# Altium footprint library SD 卡连接器.PcbLib: 6 footprints
Each footprint in its own frame and in the unit in brackets; x right, y up, seen from the top. Pads: shape width x height; smd on the part's side, far side on the other; paste and mask are expansions set on the pad; w line width, h text height; cw(c..) or ccw(c..) is an arc to the next point about the centre after c.
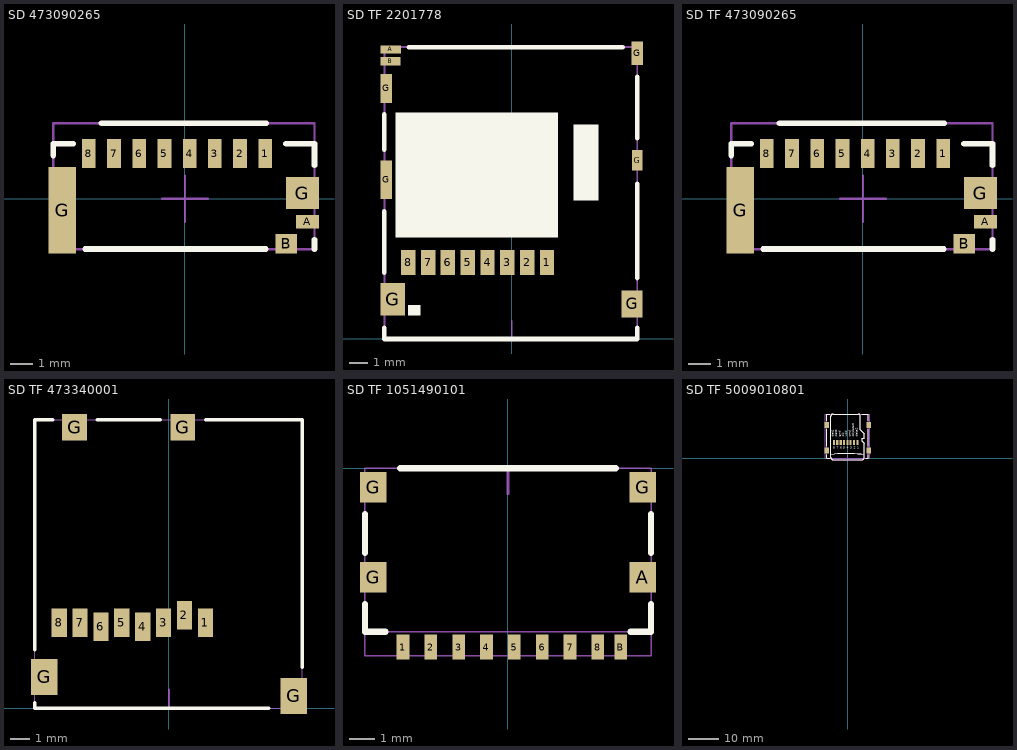
[diagram p0: the footprints below, top view; thin cyan lines are the x and y axes]

## SD 473090265 [mm]
pads (12):
  rect 0.6x1.25 smd: 1(3.503,1.975) 2(2.403,1.975) 3(1.303,1.975) 4(0.203,1.975) 5(-0.897,1.975) 6(-1.997,1.975) 7(-3.097,1.975) 8(-4.197,1.975)
  rect 1x0.6 smd: A(5.353,-1)
  rect 0.95x0.85 smd: B(4.428,-1.975)
  rect 1.2x3.79 smd: G(-5.353,-0.505)
  rect 1.45x1.4 smd: G(5.128,0.25)
Top Overlay:
  lines w0.25: -5.747,1.889 -5.747,2.4 -4.883,2.4 ; -4.35,-2.2 3.524,-2.2 ; 4.413,2.4 5.653,2.4 5.653,1.462 ; 5.653,-2.2 5.653,-1.794
  lines w0.254: -3.647,3.3 3.553,3.3
Mechanical 13:
  lines w0.1: -5.747,-2.2 -5.747,3.3 5.653,3.3 5.653,-2.2 -5.747,-2.2
Mechanical 15:
  lines w0.1: -1,0 1,0 ; 0,-1 0,1
3D body: height 2.71, standoff 0.05, extent -5.747,-2.2 5.653,3.3

## SD TF 2201778 [mm]
pads (16):
  rect 0.8x1.4 smd: 1(1.953,4.25) 2(0.853,4.25) 3(-0.248,4.25) 4(-1.348,4.25) 5(-2.447,4.25) 6(-3.547,4.25) 7(-4.647,4.25) 8(-5.747,4.25)
  rect 1.15x0.45 smd: A(-6.722,16.075)
  rect 1.1x0.45 smd: B(-6.737,15.415)
  rect 0.65x2.14 smd: G(-6.962,8.83)
  rect 0.65x1.6 smd: G(-6.962,13.91)
  rect 1.35x1.8 smd: G(-6.612,2.2)
  rect 1.16x1.5 smd: G(6.683,1.95)
  rect 0.6x1.15 smd: G(6.963,9.925)
  rect 0.65x1.3 smd: G(6.963,15.85)
Top Overlay:
  rectangle: -5.758,1.3 -5.057,1.9
  rectangle: 3.413,7.7 4.812,11.9
  rectangle: -6.448,5.64 2.553,12.57
  lines w0.254: -7.067,0.618 -7.067,0 6.963,0 6.963,0.618 ; -7.067,3.666 -7.067,7.095 ; -7.067,10.498 -7.067,12.48 ; -5.707,16.2 6.154,16.2 ; 6.963,3.386 6.963,8.619 ; 6.963,11.133 6.963,14.562
Mechanical 13:
  lines w0.1: -7.067,0 -7.067,16.2 6.963,16.2 6.963,0 -7.067,0
Mechanical 15:
  lines w0.1: -0.991,0 1,0 ; 0,0 0,1
3D body: height 1.85, standoff 0.05, extent -7.067,0 6.963,16.2

## SD TF 473090265 [mm]
pads (12):
  rect 0.6x1.25 smd: 1(3.503,1.975) 2(2.403,1.975) 3(1.303,1.975) 4(0.203,1.975) 5(-0.897,1.975) 6(-1.997,1.975) 7(-3.097,1.975) 8(-4.197,1.975)
  rect 1x0.6 smd: A(5.353,-1)
  rect 0.95x0.85 smd: B(4.428,-1.975)
  rect 1.2x3.79 smd: G(-5.353,-0.505)
  rect 1.45x1.4 smd: G(5.128,0.25)
Top Overlay:
  lines w0.25: -5.747,1.889 -5.747,2.4 -4.883,2.4 ; -4.35,-2.2 3.524,-2.2 ; 4.413,2.4 5.653,2.4 5.653,1.462 ; 5.653,-2.2 5.653,-1.794
  lines w0.254: -3.647,3.3 3.553,3.3
Mechanical 13:
  lines w0.1: -5.747,-2.2 -5.747,3.3 5.653,3.3 5.653,-2.2 -5.747,-2.2
Mechanical 15:
  lines w0.1: -1,0 1,0 ; 0,-1 0,1
3D body: height 2.71, standoff 0.05, extent -5.747,-2.2 5.653,3.3

## SD TF 473340001 [mm]
pads (12):
  rect 0.8x1.5 smd: 1(1.915,4.5) 2(0.815,4.9) 3(-0.285,4.5) 4(-1.385,4.3) 5(-2.485,4.5) 6(-3.585,4.3) 7(-4.685,4.5) 8(-5.785,4.5)
  rect 1.4x1.9 smd: G(-6.575,1.65) G(6.575,0.65)
  rect 1.3x1.4 smd: G(-4.975,14.8) G(0.725,14.807)
Top Overlay:
  lines w0.2: -7.075,0.279 -7.075,0 5.247,0 ; -7.075,3.099 -7.075,15.2 -6.132,15.2 ; -3.77,15.2 -0.468,15.2 ; 1.945,15.2 7.025,15.2 7.025,2.159
Mechanical 13:
  lines w0.05: -7.075,0 -7.075,15.2 7.025,15.2 7.025,0 -7.075,0
Mechanical 15:
  lines w0.1: -0.991,0 1,0 ; 0,0 0,1
3D body: height 1.91, standoff 0.02, extent -7.075,0 7.025,15.2

## SD TF 1051490101 [mm]
pads (13):
  rect 0.5x1 smd: 1(-4.15,-7.06) 2(-3.05,-7.06) 3(-1.95,-7.06) 4(-0.85,-7.06) 5(0.25,-7.06) 6(1.35,-7.06) 7(2.45,-7.06) 8(3.55,-7.06) B(4.45,-7.06)
  rect 1.05x1.2 smd: A(5.325,-4.3) G(-5.325,-4.3) G(-5.325,-0.75) G(5.325,-0.75)
Top Overlay:
  lines w0.25: -5.65,-5.368 -5.65,-6.45 -4.837,-6.45 ; -5.65,-3.336 -5.65,-1.812 ; -4.253,0 4.256,0 ; 4.837,-6.45 5.65,-6.45 5.65,-5.368 ; 5.65,-3.336 5.65,-1.812
Mechanical 13:
  lines w0.05: -5.65,-6.45 5.65,-6.45 ; -5.65,-7.4 5.65,-7.4 5.65,0 -5.65,0 -5.65,-7.4
Mechanical 15:
  lines w0.1: -1,0 0.991,0 ; 0,-1 0,0
3D body: height 2, standoff 0, extent -5.65,-7.4 5.65,0

## SD TF 5009010801 [mm]
height 1.65
pads (12):
  rect 0.7x1.6 smd: 1(3.204,5.156) 2(2.112,5.156) 3(0.994,5.156) 4(-0.098,5.156) 5(-1.19,5.156) 6(-2.282,5.156) 7(-3.4,5.156) 8(-4.492,5.156)
  rect 1.45x2 smd: A(-6.875,2.556) A(6.875,2.556) B(-6.875,10.856) B(6.875,10.856)
Top Overlay:
  lines w0.1: -6.801,3.906 -6.801,9.506 ; 6.799,3.906 6.799,9.506
  lines w0.127: -6.801,1.143 -6.801,0.006 -5.918,0.006 ; -6.801,12.268 -6.801,14.506 -5.944,14.506 ; -5.512,1.165 cw(c-0.214,-41.278) 5.488,1.113 ; 4.7,14.506 6.799,14.506 6.799,12.319 ; 5.867,0.006 6.799,0.006 6.799,1.143 ; -5.512,0.224 ccw(c-4.786,0.224) -4.786,-0.502 4.763,-0.502 ccw(c4.763,0.224) 5.488,0.224 5.488,4.971 4.852,5.608 4.852,6.598 5.488,6.598 5.488,8.098 4.188,9.398 4.188,13.787 ccw(c3.477,13.787) 3.477,14.498 -4.775,14.498 ccw(c-4.775,13.762) -5.512,13.762 -5.512,0.224
  text "7" at -3.628,2.743 h1.2
  text "6" at -2.511,2.743 h1.2
  text "5" at -1.393,2.743 h1.2
  text "4" at -0.276,2.743 h1.2
  text "3" at 0.842,2.743 h1.2
  text "2" at 1.958,2.743 h1.2
  text "1" at 3.077,2.743 h1.2
  text "data2" at 3.661,6.985 h1.2
  text "cd/data3" at 2.542,6.985 h1.2
  text "cmd" at 1.401,6.985 h1.2
  text "vdd" at 0.272,6.985 h1.2
  text "clk" at -0.856,6.985 h1.2
  text "gnd" at -1.985,6.985 h1.2
  text "dat0" at -3.11,6.985 h1.2
  text "dat1" at -4.238,6.985 h1.2
  text "8" at -4.746,2.743 h1.2
Mechanical 13:
  lines w0.05: -7.3,0 -7.3,14.5 7.3,14.5 7.3,0 -7.3,0
Mechanical 15:
  lines w0.1: -3.401,0.006 -6.801,0.006 -6.801,14.506 6.799,14.506 6.799,0.006 3.399,0.006 ; -0.991,0 1,0 ; 0,0 0,1 ; -5.512,0.224 ccw(c-4.786,0.224) -4.786,-0.502 4.763,-0.502 ccw(c4.763,0.224) 5.488,0.224 5.488,4.971 4.852,5.608 4.852,6.598 5.488,6.598 5.488,8.098 4.188,9.398 4.188,13.787 ccw(c3.477,13.787) 3.477,14.498 -4.775,14.498 ccw(c-4.775,13.762) -5.512,13.762 -5.512,0.224
  lines w0.127: -5.512,1.165 cw(c-0.214,-41.278) 5.488,1.113
3D body: height 1.93, standoff -0.02, extent -7.3,0 7.3,14.5